# Altium schematic symbol library CoinBatteryHolders.SchLib: 2 symbols
Pins are listed as number, name and electrical type; pins without a type are passive.

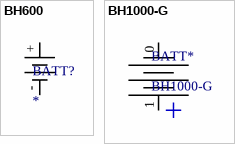
[diagram p0: symbols BH600 to BH1000-G]

## BH600
designator BATT?
16mm Battery Holder - Memory Protection Devices
footprint BH600 (16mm Battery Holder)
pins: + 0, - 1

## BH1000-G
designator BATT*
BH1000-G 24mm Coin Cell Battery Holder
footprint BH1000-G (HOLDER BATTERY FOR 24MM CELL)
pins: 0, 1